# Altium schematic symbol library alex_microcontroller.SchLib: 9 symbols
Pins are listed as number, name and electrical type; pins without a type are passive.

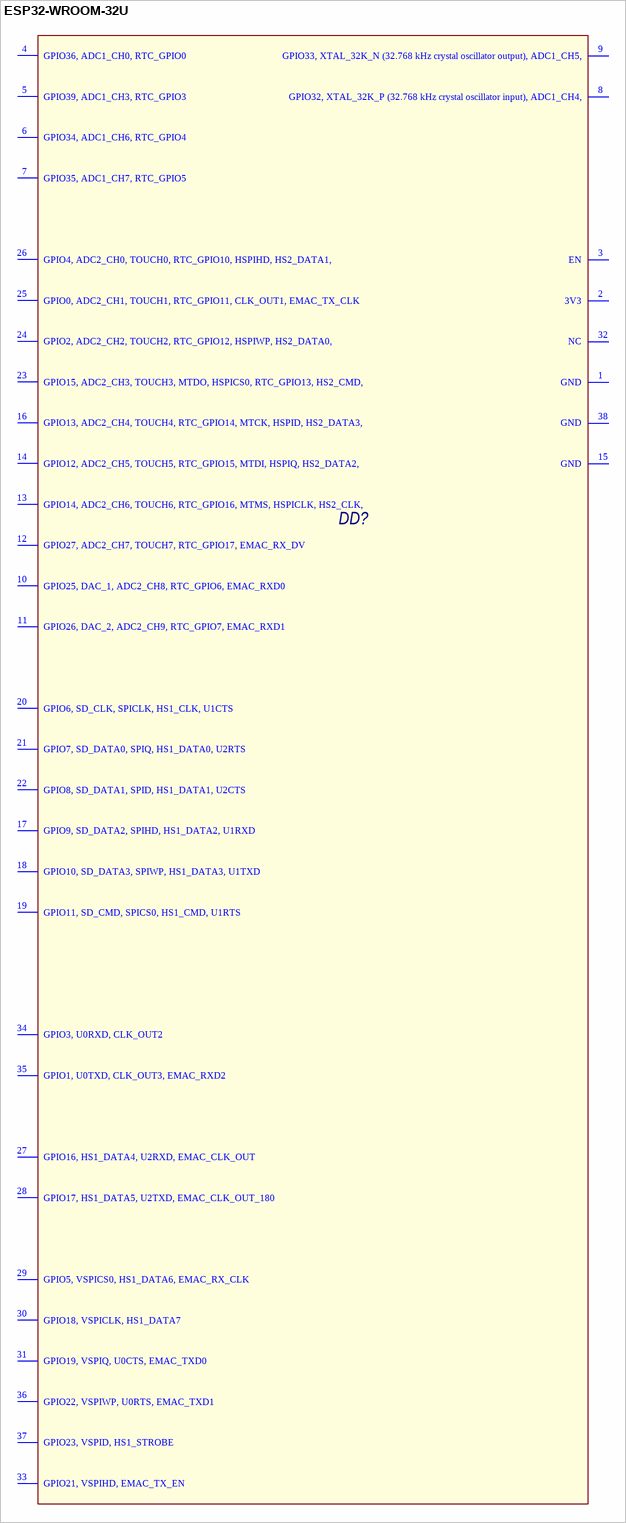
[diagram p0: symbol ESP32-WROOM-32U]

## ESP32-WROOM-32U
designator DD?, comment Микроконтроллер ESP32-WROOM-32U 240МГц  4Мб RAM  3,3В -40...85°C"ESPRESSIF"  (value not drawn)
footprint ESP32-WROOM-32U
pins: 1 GND, 2 3V3, 3 EN, 4 GPIO36, ADC1_CH0, RTC_GPIO0, 5 GPIO39, ADC1_CH3, RTC_GPIO3, 6 GPIO34, ADC1_CH6, RTC_GPIO4, 7 GPIO35, ADC1_CH7, RTC_GPIO5, 8 GPIO32, XTAL_32K_P (32.768 kHz crystal oscillator input), ADC1_CH4,, 9 GPIO33, XTAL_32K_N (32.768 kHz crystal oscillator output), ADC1_CH5,, 10 GPIO25, DAC_1, ADC2_CH8, RTC_GPIO6, EMAC_RXD0, 11 GPIO26, DAC_2, ADC2_CH9, RTC_GPIO7, EMAC_RXD1, 12 GPIO27, ADC2_CH7, TOUCH7, RTC_GPIO17, EMAC_RX_DV, 13 GPIO14, ADC2_CH6, TOUCH6, RTC_GPIO16, MTMS, HSPICLK, HS2_CLK,, 14 GPIO12, ADC2_CH5, TOUCH5, RTC_GPIO15, MTDI, HSPIQ, HS2_DATA2,, 15 GND, 16 GPIO13, ADC2_CH4, TOUCH4, RTC_GPIO14, MTCK, HSPID, HS2_DATA3,, 17 GPIO9, SD_DATA2, SPIHD, HS1_DATA2, U1RXD, 18 GPIO10, SD_DATA3, SPIWP, HS1_DATA3, U1TXD, 19 GPIO11, SD_CMD, SPICS0, HS1_CMD, U1RTS, 20 GPIO6, SD_CLK, SPICLK, HS1_CLK, U1CTS, 21 GPIO7, SD_DATA0, SPIQ, HS1_DATA0, U2RTS, 22 GPIO8, SD_DATA1, SPID, HS1_DATA1, U2CTS, 23 GPIO15, ADC2_CH3, TOUCH3, MTDO, HSPICS0, RTC_GPIO13, HS2_CMD,, 24 GPIO2, ADC2_CH2, TOUCH2, RTC_GPIO12, HSPIWP, HS2_DATA0,, 25 GPIO0, ADC2_CH1, TOUCH1, RTC_GPIO11, CLK_OUT1, EMAC_TX_CLK, 26 GPIO4, ADC2_CH0, TOUCH0, RTC_GPIO10, HSPIHD, HS2_DATA1,, 27 GPIO16, HS1_DATA4, U2RXD, EMAC_CLK_OUT, 28 GPIO17, HS1_DATA5, U2TXD, EMAC_CLK_OUT_180, 29 GPIO5, VSPICS0, HS1_DATA6, EMAC_RX_CLK, 30 GPIO18, VSPICLK, HS1_DATA7, 31 GPIO19, VSPIQ, U0CTS, EMAC_TXD0, 32 NC, 33 GPIO21, VSPIHD, EMAC_TX_EN, 34 GPIO3, U0RXD, CLK_OUT2, 35 GPIO1, U0TXD, CLK_OUT3, EMAC_RXD2, 36 GPIO22, VSPIWP, U0RTS, EMAC_TXD1, 37 GPIO23, VSPID, HS1_STROBE, 38 GND

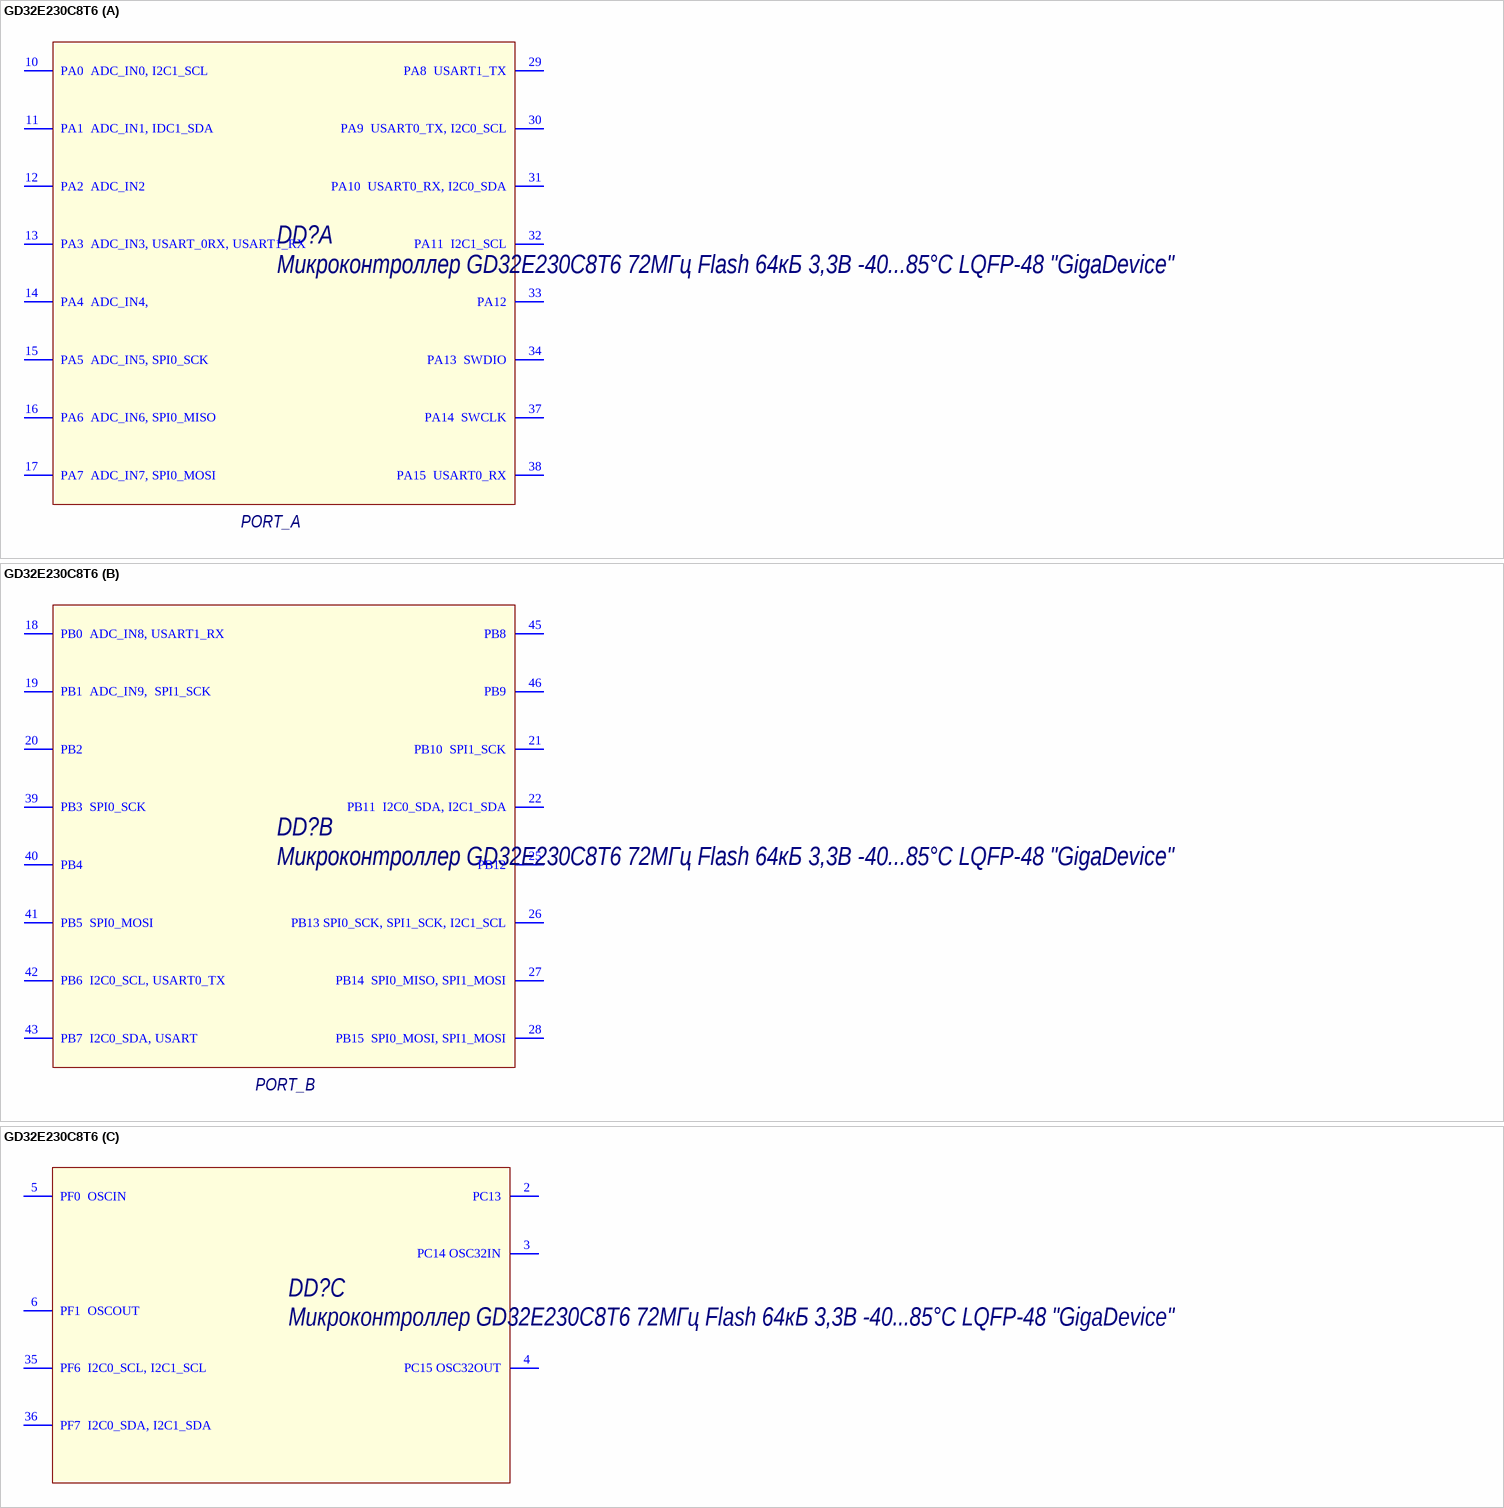
[diagram p1: symbol GD32E230C8T6]

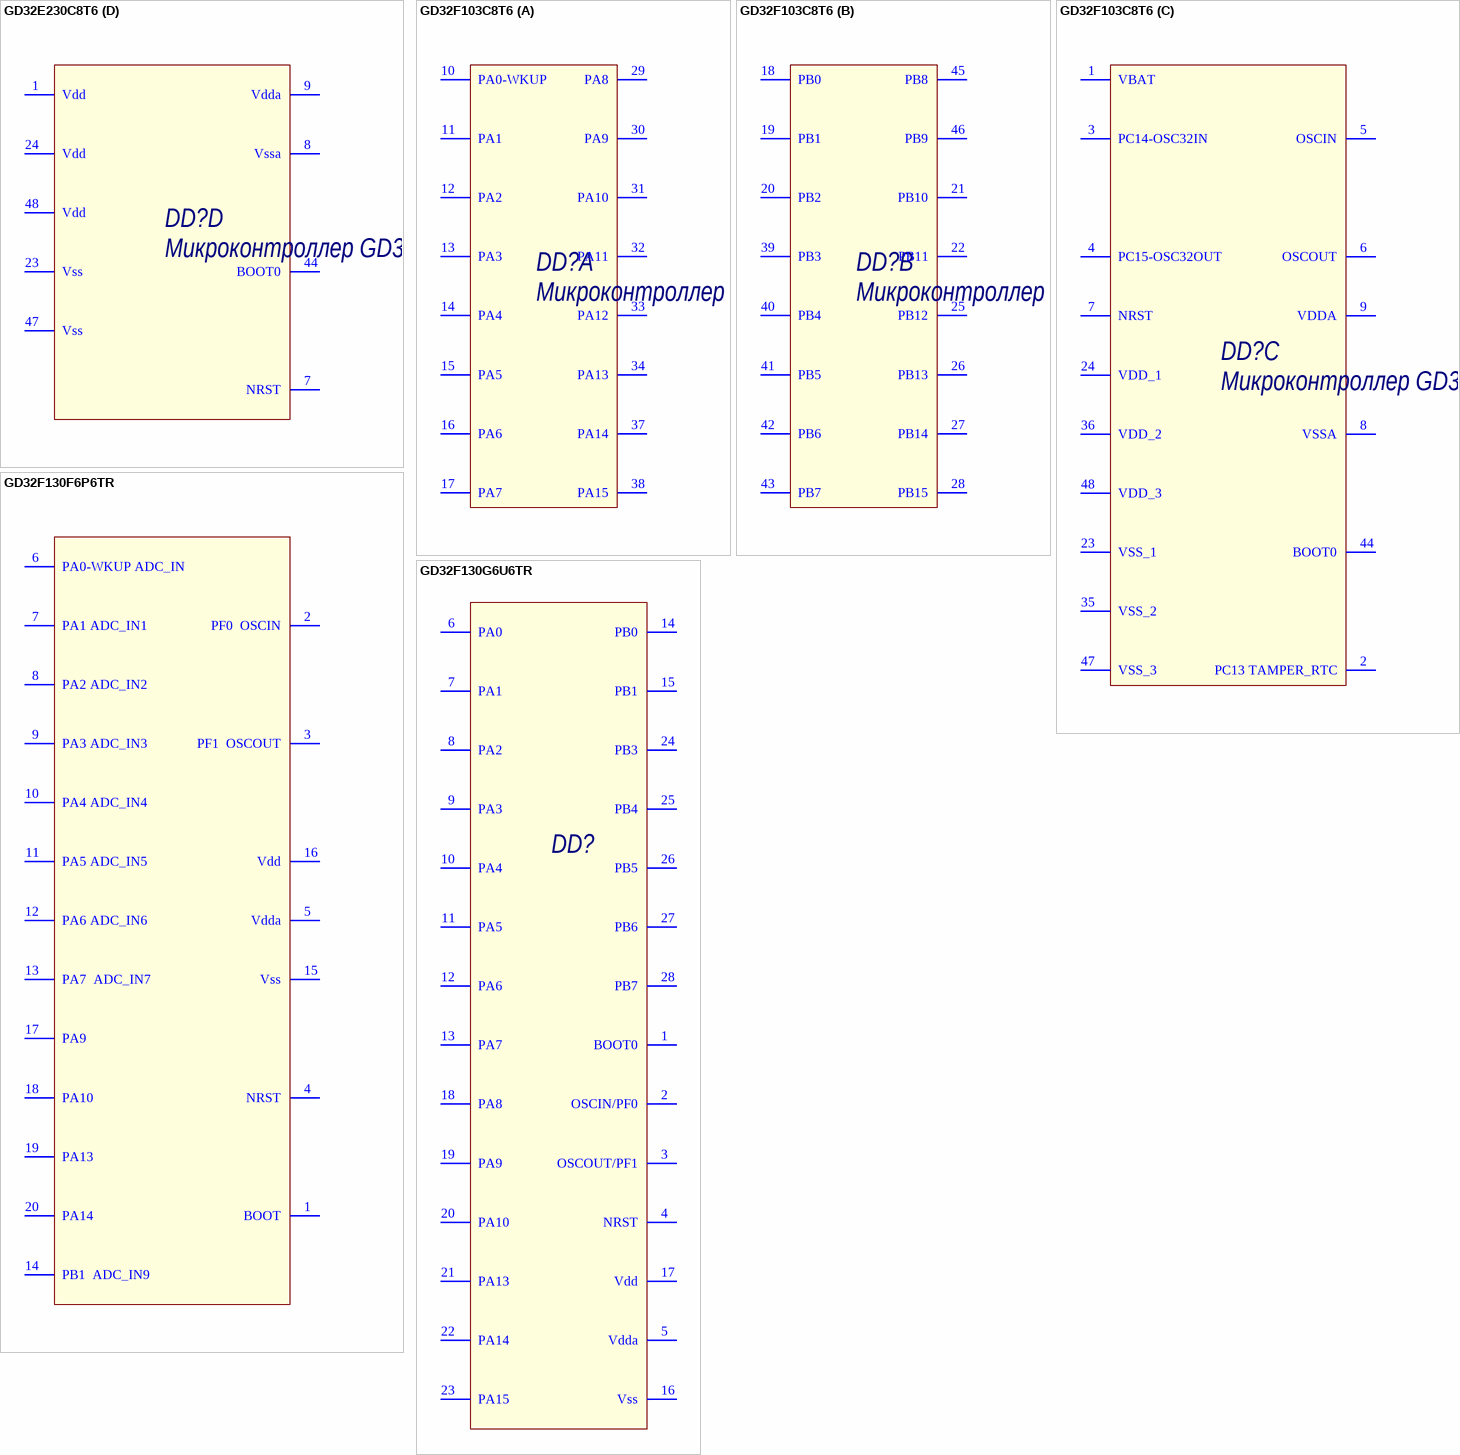
[diagram p2: symbols GD32E230C8T6 to GD32F130G6U6TR]

## GD32E230C8T6
designator DD?, comment Микроконтроллер GD32E230C8T6 72МГц Flash 64кБ 3,3В -40...85°C LQFP-48 "GigaDevice"
part A pins: 10 PA0  ADC_IN0, I2C1_SCL, 11 PA1  ADC_IN1, IDC1_SDA, 12 PA2  ADC_IN2, 13 PA3  ADC_IN3, USART_0RX, USART1_RX, 14 PA4  ADC_IN4,, 15 PA5  ADC_IN5, SPI0_SCK, 16 PA6  ADC_IN6, SPI0_MISO, 17 PA7  ADC_IN7, SPI0_MOSI, 29 PA8  USART1_TX, 30 PA9  USART0_TX, I2C0_SCL, 31 PA10  USART0_RX, I2C0_SDA, 32 PA11  I2C1_SCL, 33 PA12, 34 PA13  SWDIO, 37 PA14  SWCLK, 38 PA15  USART0_RX
part B pins: 18 PB0  ADC_IN8, USART1_RX, 19 PB1  ADC_IN9,  SPI1_SCK, 20 PB2, 21 PB10  SPI1_SCK, 22 PB11  I2C0_SDA, I2C1_SDA, 25 PB12, 26 PB13 SPI0_SCK, SPI1_SCK, I2C1_SCL, 27 PB14  SPI0_MISO, SPI1_MOSI, 28 PB15  SPI0_MOSI, SPI1_MOSI, 39 PB3  SPI0_SCK, 40 PB4, 41 PB5  SPI0_MOSI, 42 PB6  I2C0_SCL, USART0_TX, 43 PB7  I2C0_SDA, USART, 45 PB8, 46 PB9
part C pins: 2 PC13, 3 PC14 OSC32IN, 4 PC15 OSC32OUT, 5 PF0  OSCIN, 6 PF1  OSCOUT, 35 PF6  I2C0_SCL, I2C1_SCL, 36 PF7  I2C0_SDA, I2C1_SDA
part D pins: 1 Vdd, 7 NRST, 8 Vssa, 9 Vdda, 23 Vss, 24 Vdd, 44 BOOT0, 47 Vss, 48 Vdd
part A text: PORT_A
part B text: PORT_B

## GD32F103C8T6
designator DD?, comment Микроконтроллер GD32F103C8T6 108МГц Flash 64кБ 3,3В -40...85°C LQFP-48 "GigaDevice"
footprint LQFP-48 (CQFP, 48-Leads, Body 9,00x9,00mm, Pitch 0,50mm, IPC Medium Density)
part A pins: 10 PA0-WKUP, 11 PA1, 12 PA2, 13 PA3, 14 PA4, 15 PA5, 16 PA6, 17 PA7, 29 PA8, 30 PA9, 31 PA10, 32 PA11, 33 PA12, 34 PA13, 37 PA14, 38 PA15
part B pins: 18 PB0, 19 PB1, 20 PB2, 21 PB10, 22 PB11, 25 PB12, 26 PB13, 27 PB14, 28 PB15, 39 PB3, 40 PB4, 41 PB5, 42 PB6, 43 PB7, 45 PB8, 46 PB9
part C pins: 1 VBAT, 2 PC13 TAMPER_RTC, 3 PC14-OSC32IN, 4 PC15-OSC32OUT, 5 OSCIN, 6 OSCOUT, 7 NRST, 8 VSSA, 9 VDDA, 23 VSS_1, 24 VDD_1, 35 VSS_2, 36 VDD_2, 44 BOOT0, 47 VSS_3, 48 VDD_3

## GD32F130F6P6TR
designator DD?, comment Микроконтроллер GD32F130F6P6TR 72МГц Flash 64кБ 3,3В -40...85°C TSSOP-20 "GigaDevice"
footprint TSSOP-20
pins: 1 BOOT, 2 PF0  OSCIN, 3 PF1  OSCOUT, 4 NRST, 5 Vdda, 6 PA0-WKUP ADC_IN, 7 PA1 ADC_IN1, 8 PA2 ADC_IN2, 9 PA3 ADC_IN3, 10 PA4 ADC_IN4, 11 PA5 ADC_IN5, 12 PA6 ADC_IN6, 13 PA7  ADC_IN7, 14 PB1  ADC_IN9, 15 Vss, 16 Vdd, 17 PA9, 18 PA10, 19 PA13, 20 PA14

## GD32F130G6U6TR
designator DD?, comment Микроконтроллер GD32F130G6U6TR 120МГц Flash 28кБ RAM 96кБ 3,3В -40...85°C QFN-28 "GigaDevice"  (value not drawn)
footprint QFN-28
pins: 1 BOOT0, 2 OSCIN/PF0, 3 OSCOUT/PF1, 4 NRST, 5 Vdda, 6 PA0, 7 PA1, 8 PA2, 9 PA3, 10 PA4, 11 PA5, 12 PA6, 13 PA7, 14 PB0, 15 PB1, 16 Vss, 17 Vdd, 18 PA8, 19 PA9, 20 PA10, 21 PA13, 22 PA14, 23 PA15, 24 PB3, 25 PB4, 26 PB5, 27 PB6, 28 PB7

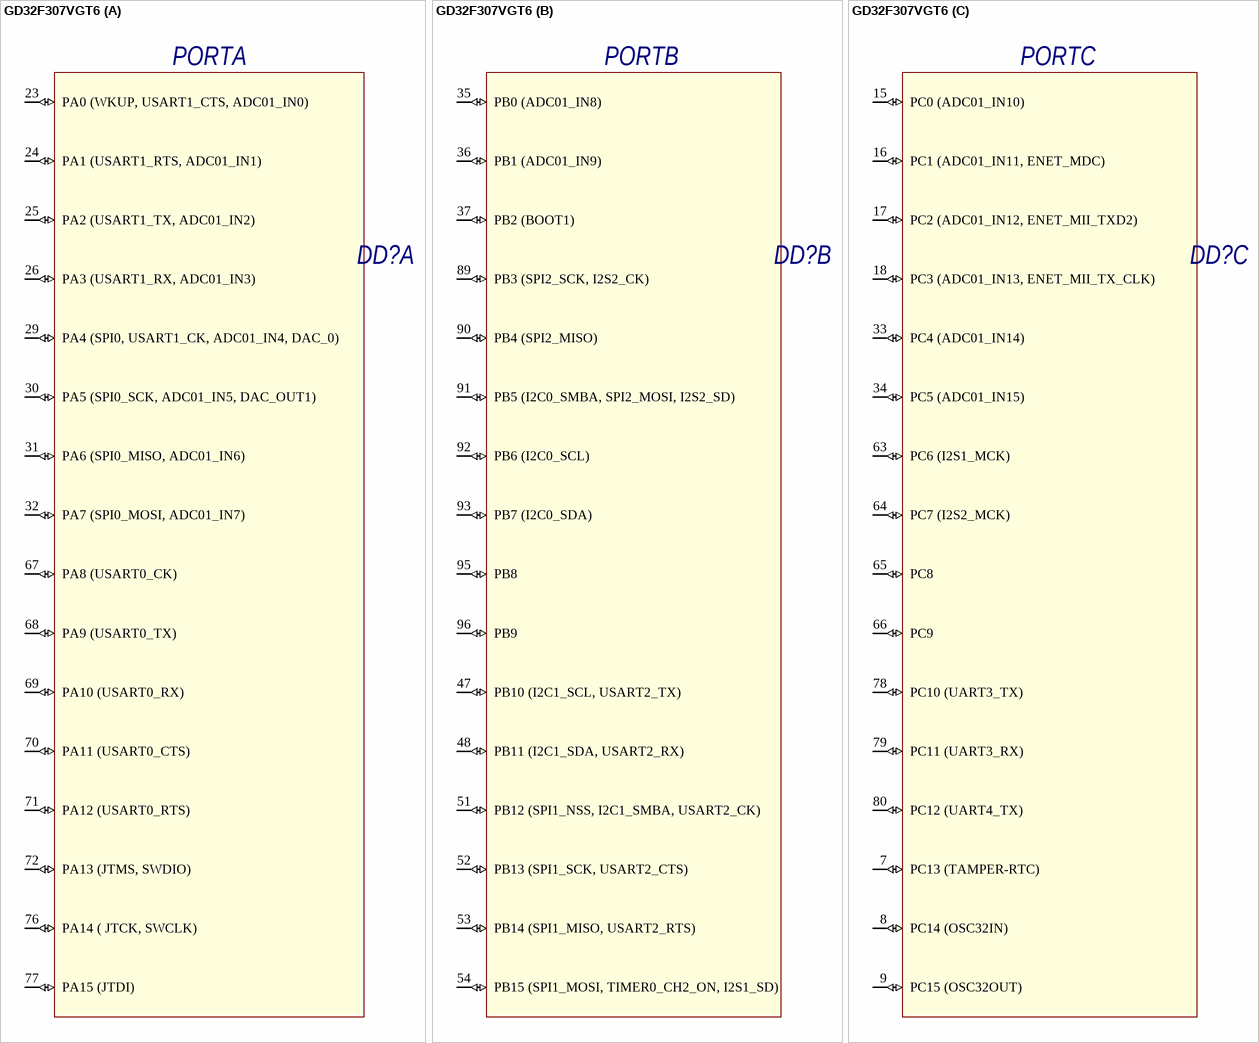
[diagram p3: symbol GD32F307VGT6]

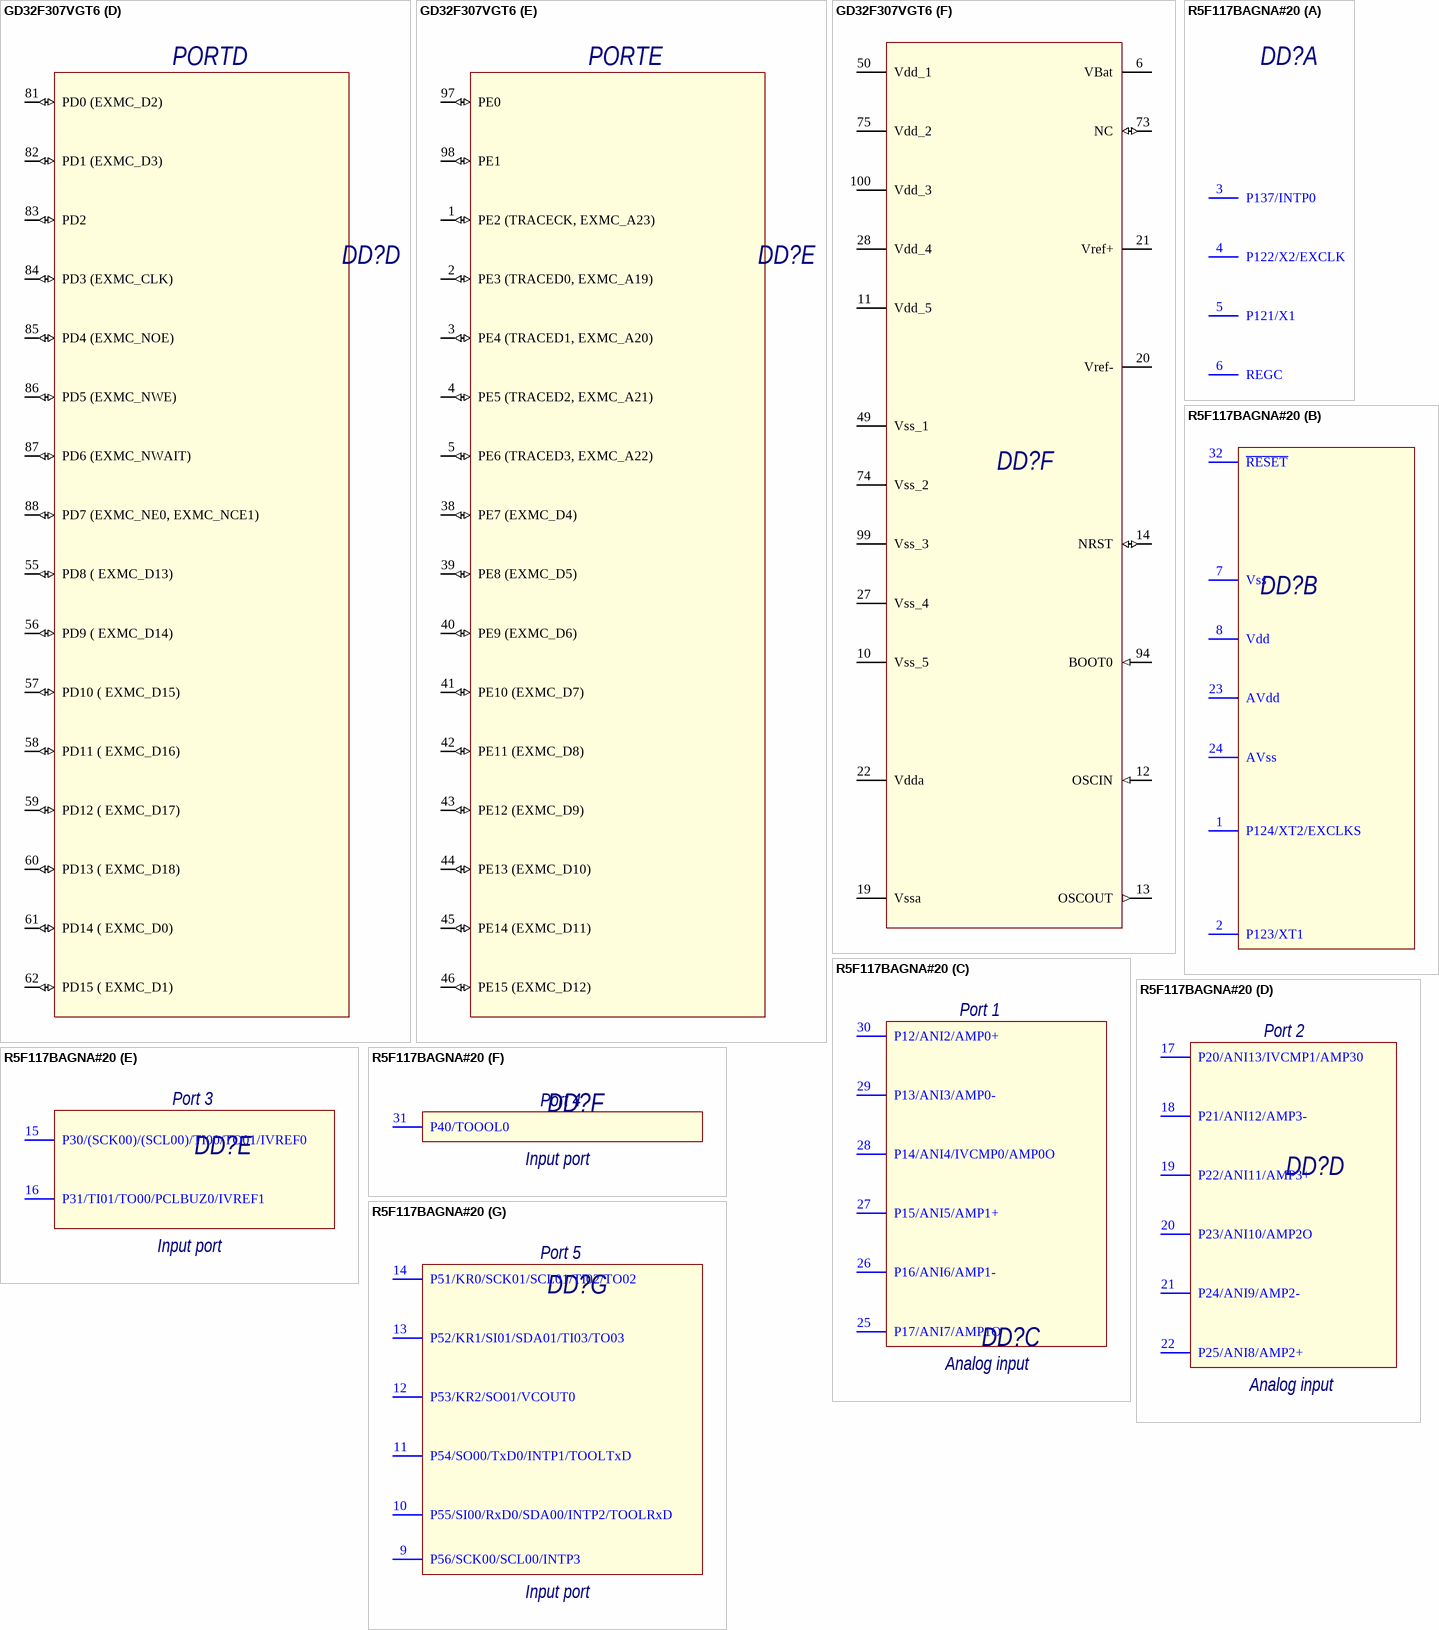
[diagram p4: symbols GD32F307VGT6 to R5F117BAGNA#20]

## GD32F307VGT6
designator DD?, comment Микроконтроллер GD32F307VGT6 120МГц Flash 1024кБ RAM 96кБ 3,3В -40...85°C LQFP-100 "GigaDevice"  (value not drawn)
footprint LQFP-100 (CQFP, 100-Leads, Body 18,70x18,70mm, Pitch 0,50mm, IPC Medium Density)
part A pins: 23 PA0 (WKUP, USART1_CTS, ADC01_IN0) (io), 24 PA1 (USART1_RTS, ADC01_IN1) (io), 25 PA2 (USART1_TX, ADC01_IN2) (io), 26 PA3 (USART1_RX, ADC01_IN3) (io), 29 PA4 (SPI0, USART1_CK, ADC01_IN4, DAC_0) (io), 30 PA5 (SPI0_SCK, ADC01_IN5, DAC_OUT1) (io), 31 PA6 (SPI0_MISO, ADC01_IN6) (io), 32 PA7 (SPI0_MOSI, ADC01_IN7) (io), 67 PA8 (USART0_CK) (io), 68 PA9 (USART0_TX) (io), 69 PA10 (USART0_RX) (io), 70 PA11 (USART0_CTS) (io), 71 PA12 (USART0_RTS) (io), 72 PA13 (JTMS, SWDIO) (io), 76 PA14 ( JTCK, SWCLK) (io), 77 PA15 (JTDI) (io)
part B pins: 35 PB0 (ADC01_IN8) (io), 36 PB1 (ADC01_IN9) (io), 37 PB2 (BOOT1) (io), 47 PB10 (I2C1_SCL, USART2_TX) (io), 48 PB11 (I2C1_SDA, USART2_RX) (io), 51 PB12 (SPI1_NSS, I2C1_SMBA, USART2_CK) (io), 52 PB13 (SPI1_SCK, USART2_CTS) (io), 53 PB14 (SPI1_MISO, USART2_RTS) (io), 54 PB15 (SPI1_MOSI, TIMER0_CH2_ON, I2S1_SD) (io), 89 PB3 (SPI2_SCK, I2S2_CK) (io), 90 PB4 (SPI2_MISO) (io), 91 PB5 (I2C0_SMBA, SPI2_MOSI, I2S2_SD) (io), 92 PB6 (I2C0_SCL) (io), 93 PB7 (I2C0_SDA) (io), 95 PB8 (io), 96 PB9 (io)
part C pins: 7 PC13 (TAMPER-RTC) (io), 8 PC14 (OSC32IN) (io), 9 PC15 (OSC32OUT) (io), 15 PC0 (ADC01_IN10) (io), 16 PC1 (ADC01_IN11, ENET_MDC) (io), 17 PC2 (ADC01_IN12, ENET_MII_TXD2) (io), 18 PC3 (ADC01_IN13, ENET_MII_TX_CLK) (io), 33 PC4 (ADC01_IN14) (io), 34 PC5 (ADC01_IN15) (io), 63 PC6 (I2S1_MCK) (io), 64 PC7 (I2S2_MCK) (io), 65 PC8 (io), 66 PC9 (io), 78 PC10 (UART3_TX) (io), 79 PC11 (UART3_RX) (io), 80 PC12 (UART4_TX) (io)
part D pins: 55 PD8 ( EXMC_D13) (io), 56 PD9 ( EXMC_D14) (io), 57 PD10 ( EXMC_D15) (io), 58 PD11 ( EXMC_D16) (io), 59 PD12 ( EXMC_D17) (io), 60 PD13 ( EXMC_D18) (io), 61 PD14 ( EXMC_D0) (io), 62 PD15 ( EXMC_D1) (io), 81 PD0 (EXMC_D2) (io), 82 PD1 (EXMC_D3) (io), 83 PD2 (io), 84 PD3 (EXMC_CLK) (io), 85 PD4 (EXMC_NOE) (io), 86 PD5 (EXMC_NWE) (io), 87 PD6 (EXMC_NWAIT) (io), 88 PD7 (EXMC_NE0, EXMC_NCE1) (io)
part E pins: 1 PE2 (TRACECK, EXMC_A23) (io), 2 PE3 (TRACED0, EXMC_A19) (io), 3 PE4 (TRACED1, EXMC_A20) (io), 4 PE5 (TRACED2, EXMC_A21) (io), 5 PE6 (TRACED3, EXMC_A22) (io), 38 PE7 (EXMC_D4) (io), 39 PE8 (EXMC_D5) (io), 40 PE9 (EXMC_D6) (io), 41 PE10 (EXMC_D7) (io), 42 PE11 (EXMC_D8) (io), 43 PE12 (EXMC_D9) (io), 44 PE13 (EXMC_D10) (io), 45 PE14 (EXMC_D11) (io), 46 PE15 (EXMC_D12) (io), 97 PE0 (io), 98 PE1 (io)
part F pins: 6 VBat (power), 10 Vss_5 (power), 11 Vdd_5 (power), 12 OSCIN (in), 13 OSCOUT (out), 14 NRST (io), 19 Vssa (power), 20 Vref- (power), 21 Vref+ (power), 22 Vdda (power), 27 Vss_4 (power), 28 Vdd_4 (power), 49 Vss_1 (power), 50 Vdd_1 (power), 73 NC (io), 74 Vss_2 (power), 75 Vdd_2 (power), 94 BOOT0 (in), 99 Vss_3 (power), 100 Vdd_3 (power)
part A text: PORTA
part B text: PORTB
part C text: PORTC
part D text: PORTD
part E text: PORTE

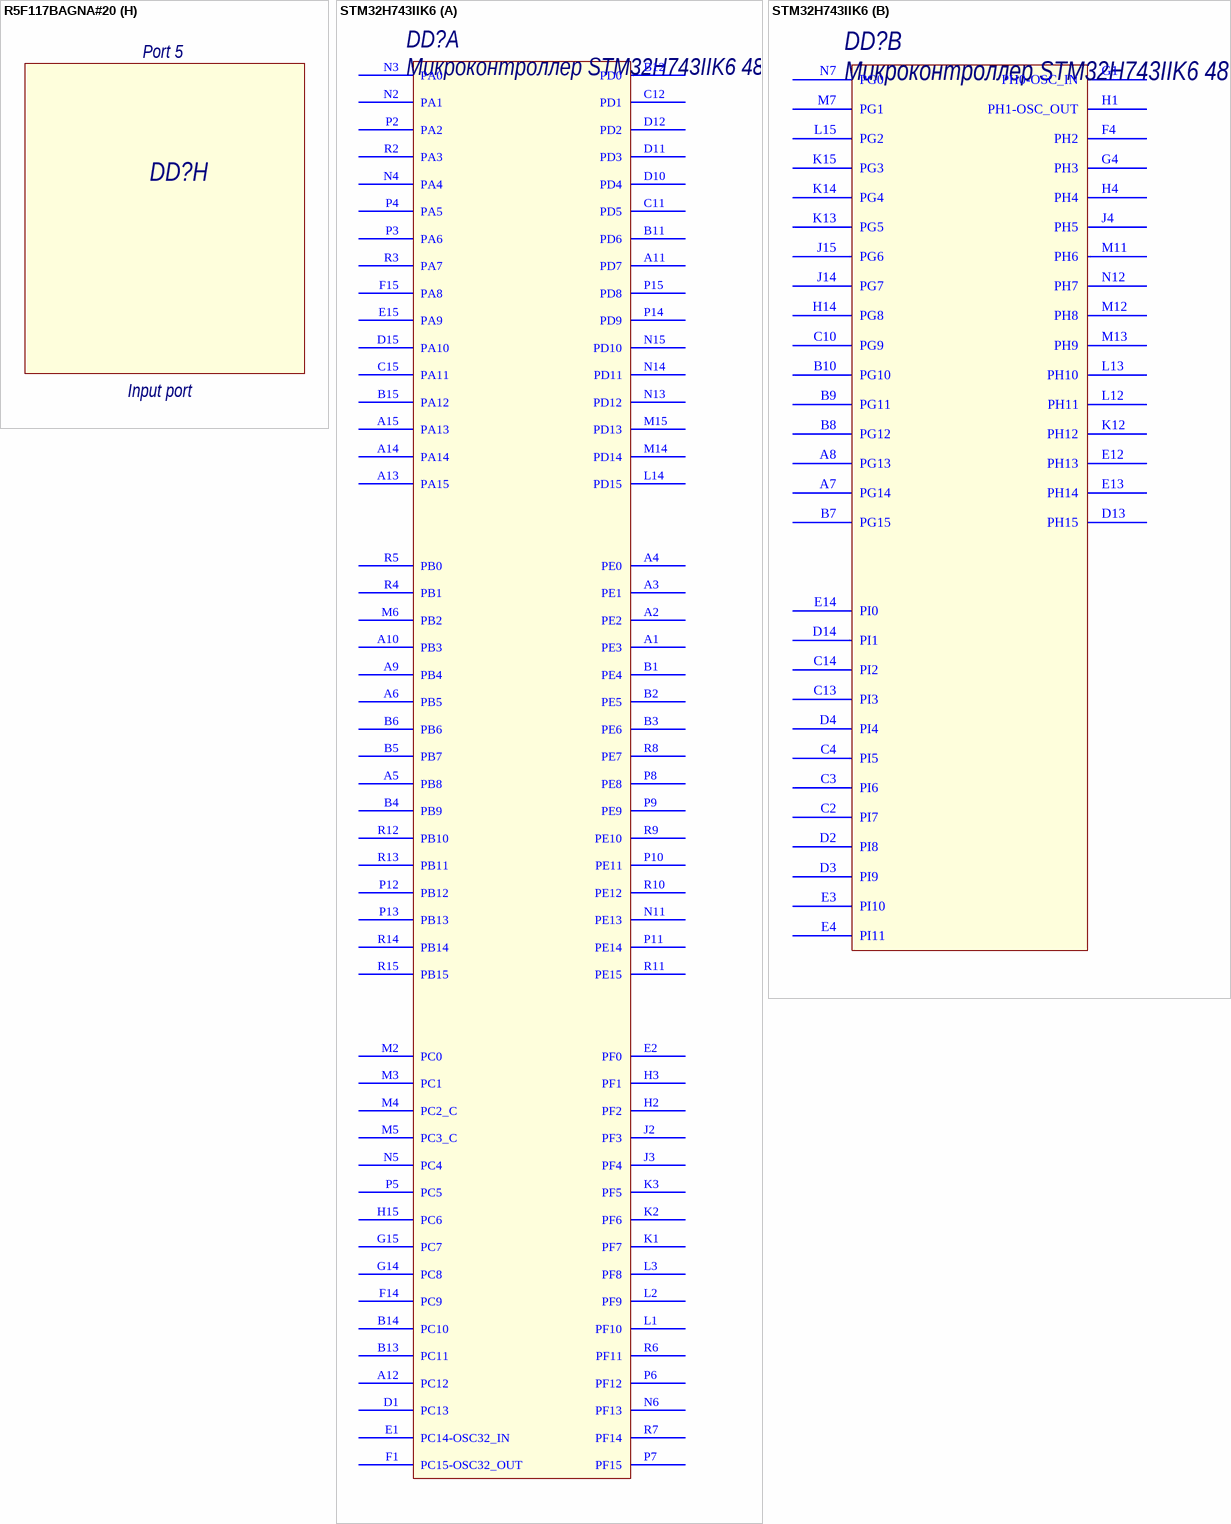
[diagram p5: symbols R5F117BAGNA#20 to STM32H743IIK6]

## R5F117BAGNA#20
designator DD?, comment Микроконтроллер R5F117BAGNA#20 24МГц Flash 32кБ RAM 3кБ 3,3В -40...85°C QFN-32 "Renesas"  (value not drawn)
part A pins: 3 P137/INTP0, 4 P122/X2/EXCLK, 5 P121/X1, 6 REGC
part B pins: 1 P124/XT2/EXCLKS, 2 P123/XT1, 7 Vss, 8 Vdd, 23 AVdd, 24 AVss, 32 ~{RESET}
part C pins: 25 P17/ANI7/AMP1O, 26 P16/ANI6/AMP1-, 27 P15/ANI5/AMP1+, 28 P14/ANI4/IVCMP0/AMP0O, 29 P13/ANI3/AMP0-, 30 P12/ANI2/AMP0+
part D pins: 17 P20/ANI13/IVCMP1/AMP30, 18 P21/ANI12/AMP3-, 19 P22/ANI11/AMP3+, 20 P23/ANI10/AMP2O, 21 P24/ANI9/AMP2-, 22 P25/ANI8/AMP2+
part E pins: 15 P30/(SCK00)/(SCL00)/TI00/TO01/IVREF0, 16 P31/TI01/TO00/PCLBUZ0/IVREF1
part F pins: 31 P40/TOOOL0
part G pins: 9 P56/SCK00/SCL00/INTP3, 10 P55/SI00/RxD0/SDA00/INTP2/TOOLRxD, 11 P54/SO00/TxD0/INTP1/TOOLTxD, 12 P53/KR2/SO01/VCOUT0, 13 P52/KR1/SI01/SDA01/TI03/TO03, 14 P51/KR0/SCK01/SCL01/TI02/TO02
part C text: Port 1; Analog input
part D text: Port 2; Analog input
part E text: Port 3; Input port
part F text: Port 4; Input port
part G text: Port 5; Input port
part H text: Port 5; Input port

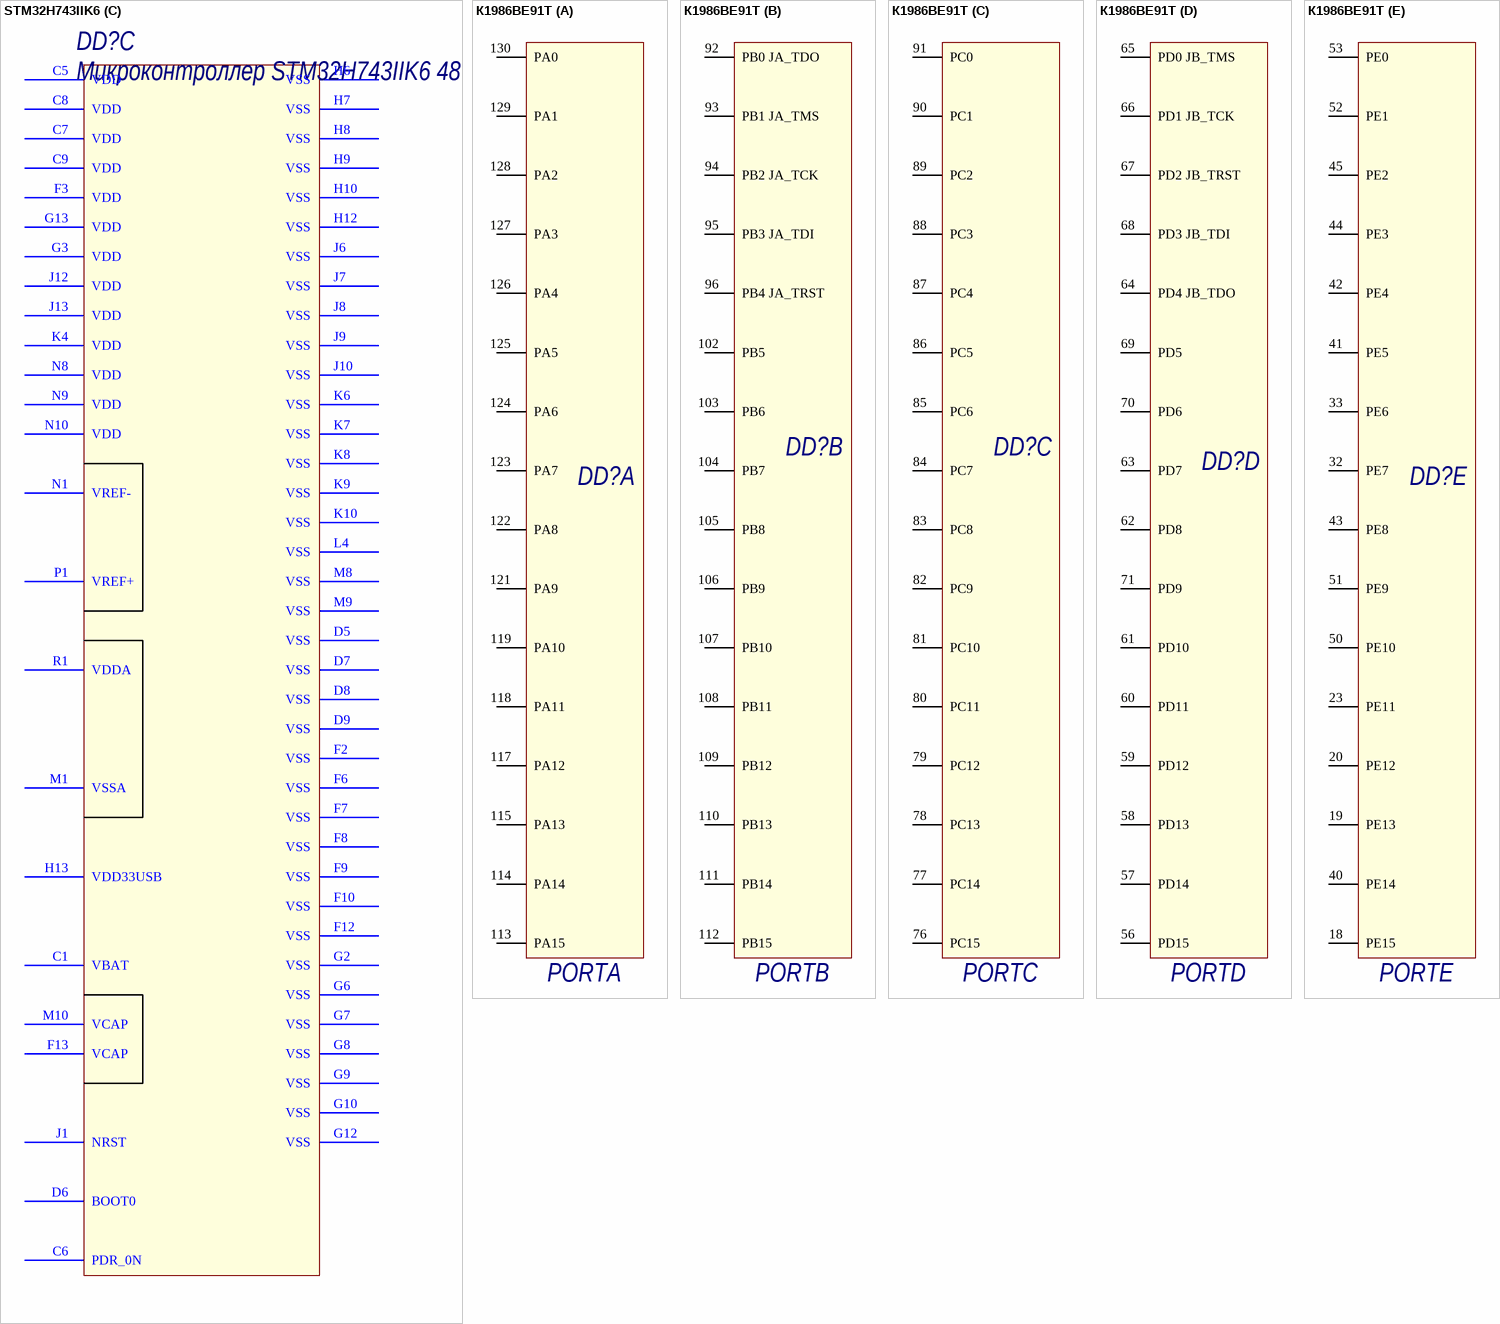
[diagram p6: symbols STM32H743IIK6 to К1986ВЕ91Т]

## STM32H743IIK6
designator DD?, comment Микроконтроллер STM32H743IIK6 480 МГц Flash 2 МБ 3,3В -40...85°C UFBGA176+25 "STM"
footprint UFBGA176+25 (BGA, 225-Leads, Body 9,93x9,93mmx0,60mm, Pitch 0,65mm)
part A pins: A1 PE3, A2 PE2, A3 PE1, A4 PE0, A5 PB8, A6 PB5, A9 PB4, A10 PB3, A11 PD7, A12 PC12, A13 PA15, A14 PA14, A15 PA13, B1 PE4, B2 PE5, B3 PE6, B4 PB9, B5 PB7, B6 PB6, B11 PD6, B12 PD0, B13 PC11, B14 PC10, B15 PA12, C11 PD5, C12 PD1, C15 PA11, D1 PC13, D10 PD4, D11 PD3, D12 PD2, D15 PA10, E1 PC14-OSC32_IN, E2 PF0, E15 PA9, F1 PC15-OSC32_OUT, F14 PC9, F15 PA8, G14 PC8, G15 PC7, H2 PF2, H3 PF1, H15 PC6, J2 PF3, J3 PF4, K1 PF7, K2 PF6, K3 PF5, L1 PF10, L2 PF9, L3 PF8, L14 PD15, M2 PC0, M3 PC1, M4 PC2_C, M5 PC3_C, M6 PB2, M14 PD14, M15 PD13, N2 PA1, N3 PA0, N4 PA4, N5 PC4, N6 PF13, N11 PE13, N13 PD12, N14 PD11, N15 PD10, P2 PA2, P3 PA6, P4 PA5, P5 PC5, P6 PF12, P7 PF15, P8 PE8, P9 PE9, P10 PE11, P11 PE14, P12 PB12, P13 PB13, P14 PD9, P15 PD8, R2 PA3, R3 PA7, R4 PB1, R5 PB0, R6 PF11, R7 PF14, R8 PE7, R9 PE10, R10 PE12, R11 PE15, R12 PB10, R13 PB11, R14 PB14, R15 PB15
part B pins: A7 PG14, A8 PG13, B7 PG15, B8 PG12, B9 PG11, B10 PG10, C2 PI7, C3 PI6, C4 PI5, C10 PG9, C13 PI3, C14 PI2, D2 PI8, D3 PI9, D4 PI4, D13 PH15, D14 PI1, E3 PI10, E4 PI11, E12 PH13, E13 PH14, E14 PI0, F4 PH2, G1 PH0-OSC_IN, G4 PH3, H1 PH1-OSC_OUT, H4 PH4, H14 PG8, J4 PH5, J14 PG7, J15 PG6, K12 PH12, K13 PG5, K14 PG4, K15 PG3, L12 PH11, L13 PH10, L15 PG2, M7 PG1, M11 PH6, M12 PH8, M13 PH9, N7 PG0, N12 PH7
part C pins: C1 VBAT, C5 VDD, C6 PDR_0N, C7 VDD, C8 VDD, C9 VDD, D5 VSS, D6 BOOT0, D7 VSS, D8 VSS, D9 VSS, F2 VSS, F3 VDD, F6 VSS, F7 VSS, F8 VSS, F9 VSS, F10 VSS, F12 VSS, F13 VCAP, G2 VSS, G3 VDD, G6 VSS, G7 VSS, G8 VSS, G9 VSS, G10 VSS, G12 VSS, G13 VDD, H6 VSS, H7 VSS, H8 VSS, H9 VSS, H10 VSS, H12 VSS, H13 VDD33USB, J1 NRST, J6 VSS, J7 VSS, J8 VSS, J9 VSS, J10 VSS, J12 VDD, J13 VDD, K4 VDD, K6 VSS, K7 VSS, K8 VSS, K9 VSS, K10 VSS, L4 VSS, M1 VSSA, M8 VSS, M9 VSS, M10 VCAP, N1 VREF-, N8 VDD, N9 VDD, N10 VDD, P1 VREF+, R1 VDDA

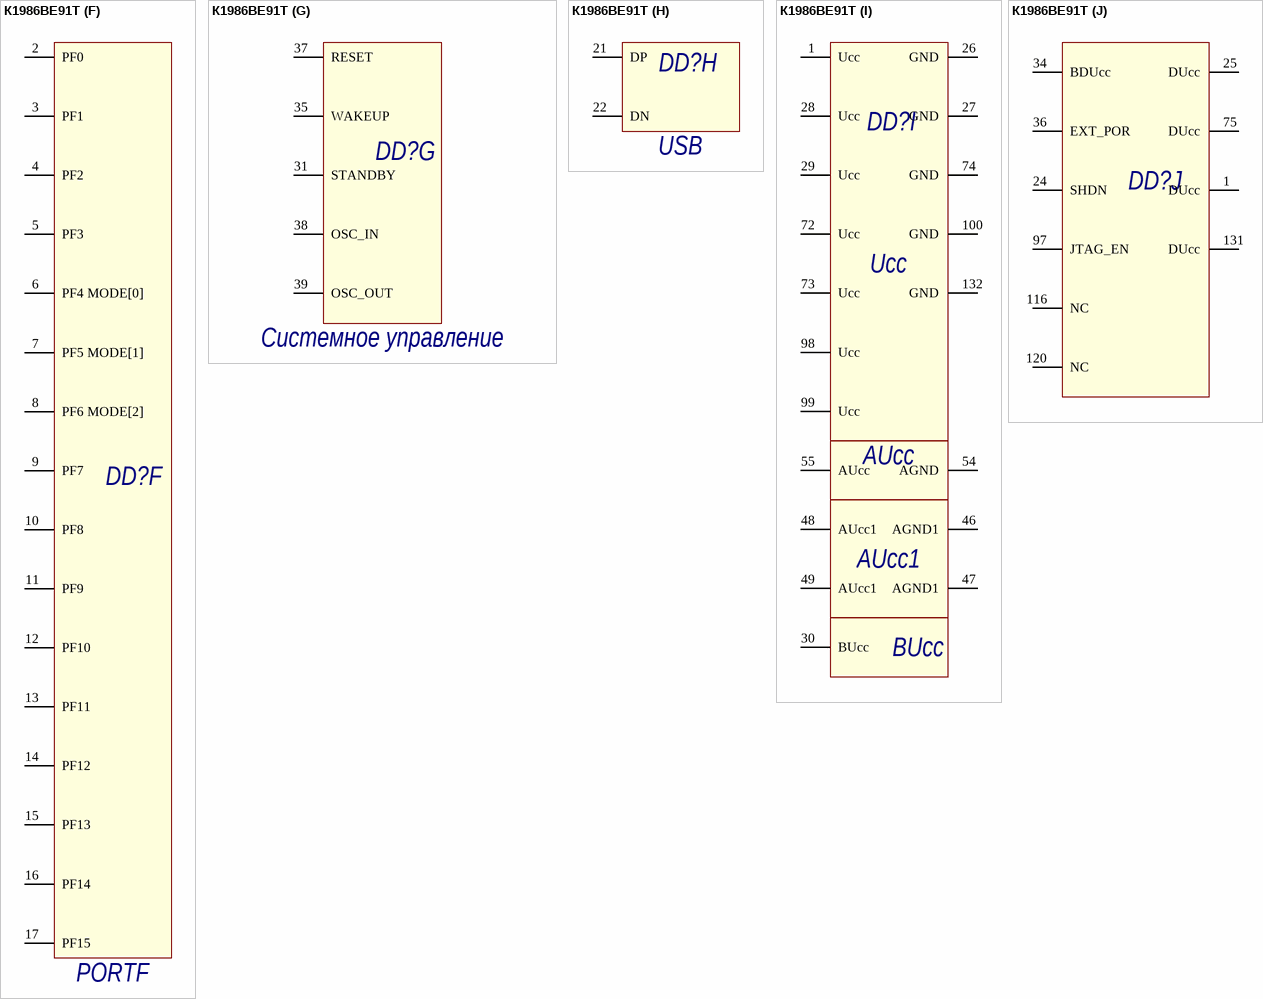
[diagram p7: symbol К1986ВЕ91Т]

## К1986ВЕ91Т
designator DD?, comment Контроллер К1986ВЕ91Т 2,2-3,6В корпус 4229.132-3 -60...+125°C АО ПКК "Миландр"  (value not drawn)
footprint 4229.132-3
part A pins: 113 PA15, 114 PA14, 115 PA13, 117 PA12, 118 PA11, 119 PA10, 121 PA9, 122 PA8, 123 PA7, 124 PA6, 125 PA5, 126 PA4, 127 PA3, 128 PA2, 129 PA1, 130 PA0
part B pins: 92 PB0 JA_TDO, 93 PB1 JA_TMS, 94 PB2 JA_TCK, 95 PB3 JA_TDI, 96 PB4 JA_TRST, 102 PB5, 103 PB6, 104 PB7, 105 PB8, 106 PB9, 107 PB10, 108 PB11, 109 PB12, 110 PB13, 111 PB14, 112 PB15
part C pins: 76 PC15, 77 PC14, 78 PC13, 79 PC12, 80 PC11, 81 PC10, 82 PC9, 83 PC8, 84 PC7, 85 PC6, 86 PC5, 87 PC4, 88 PC3, 89 PC2, 90 PC1, 91 PC0
part D pins: 56 PD15, 57 PD14, 58 PD13, 59 PD12, 60 PD11, 61 PD10, 62 PD8, 63 PD7, 64 PD4 JB_TDO, 65 PD0 JB_TMS, 66 PD1 JB_TCK, 67 PD2 JB_TRST, 68 PD3 JB_TDI, 69 PD5, 70 PD6, 71 PD9
part E pins: 18 PE15, 19 PE13, 20 PE12, 23 PE11, 32 PE7, 33 PE6, 40 PE14, 41 PE5, 42 PE4, 43 PE8, 44 PE3, 45 PE2, 50 PE10, 51 PE9, 52 PE1, 53 PE0
part F pins: 2 PF0, 3 PF1, 4 PF2, 5 PF3, 6 PF4 MODE[0], 7 PF5 MODE[1], 8 PF6 MODE[2], 9 PF7, 10 PF8, 11 PF9, 12 PF10, 13 PF11, 14 PF12, 15 PF13, 16 PF14, 17 PF15
part G pins: 31 STANDBY, 35 WAKEUP, 37 RESET, 38 OSC_IN, 39 OSC_OUT
part H pins: 21 DP, 22 DN
part I pins: 1 Ucc, 26 GND, 27 GND, 28 Ucc, 29 Ucc, 30 BUcc, 46 AGND1, 47 AGND1, 48 AUcc1, 49 AUcc1, 54 AGND, 55 AUcc, 72 Ucc, 73 Ucc, 74 GND, 98 Ucc, 99 Ucc, 100 GND, 132 GND
part J pins: 1 DUcc, 24 SHDN, 25 DUcc, 34 BDUcc, 36 EXT_POR, 75 DUcc, 97 JTAG_EN, 116 NC, 120 NC, 131 DUcc
part A text: PORTA
part B text: PORTB
part C text: PORTC
part D text: PORTD
part E text: PORTE
part F text: PORTF
part G text: Системное управление
part H text: USB